# EAGLE library part GMS-G6 (library GlobalTop)
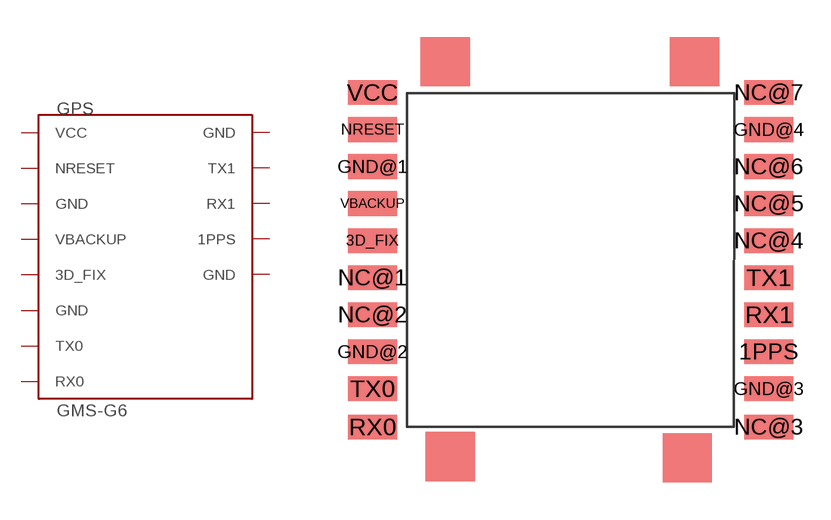
[diagram p0: symbol with the pads of LCC_20; footprint LCC_20]

Designator prefix GPS

## GMS-G6  [LCC_20]
1PPS  1PPS
3D_FIX  3D_FIX
GND@1  GND
GND@2  GND
GND@3  GND
GND@4  GND
NRESET  NRESET
RX0  RX0
RX1  RX1
TX0  TX0
TX1  TX1
VBACKUP  VBACKUP
VCC  VCC

## Footprint LCC_20 (pad centres in mm)
smd 2 x 1: 1PPS 8.05,-3.75; 3D_FIX -8,0.75; GND@1 -8,3.75; GND@2 -8,-3.75; GND@3 8.05,-5.25; GND@4 8.05,5.25; NC@1 -8,-0.75; NC@2 -8,-2.25; NC@3 8.05,-6.8; NC@4 8.05,0.75; NC@5 8.05,2.25; NC@6 8.05,3.75; NC@7 8.05,6.75; NRESET -8,5.25; RX0 -8,-6.8; RX1 8.05,-2.25; TX0 -8,-5.25; TX1 8.05,-0.75; VBACKUP -8,2.25; VCC -8,6.75